# Altium schematic symbol library CAP_22nfar_805pkg.SchLib: 1 symbol
Pins are listed as number, name and electrical type; pins without a type are passive.

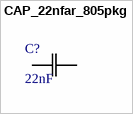
[diagram p0: symbol CAP_22nfar_805pkg]

## CAP_22nfar_805pkg
designator C?, comment 22nF
No Description Available; Mfr_Name: TDK
footprint CAP_2012_TDK
pins: 1, 2